# Altium schematic symbol library BF723.Schlib: 1 symbol
Pins are listed as number, name and electrical type; pins without a type are passive.

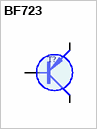
[diagram p0: symbol BF723]

## BF723
designator T?
SOT223 250V 0.1A   60MHz 2.5p (30V) (BF722)
pins: 1 B, 2 C (oc), 3 E (oe)
1 alternate drawing of the same symbol